# EAGLE library part LED-MATRIX-8X8-RGY-COMK (library mylib)
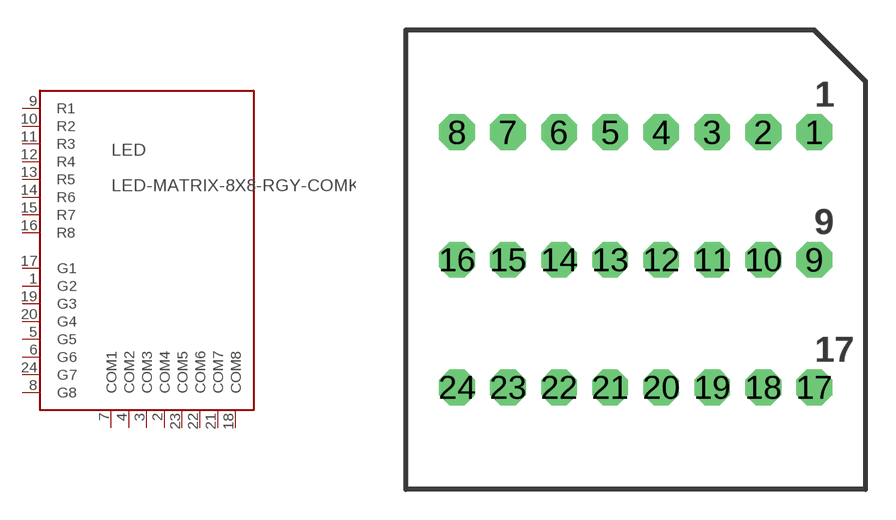
[diagram p5: symbol with the pads of LED-MATRIX-8X8-RG; footprint LED-MATRIX-8X8-RG]

Designator prefix LED

## LED-MATRIX-8X8-RGY-COMK  [LED-MATRIX-8X8-RG]
1  G2
2  COM4
3  COM3
4  COM2
5  G5
6  G6
7  COM1
8  G8
9  R1
10  R2
11  R3
12  R4
13  R5
14  R6
15  R7
16  R8
17  G1
18  COM8
19  G3
20  G4
21  COM7
22  COM6
23  COM5
24  G7

## Footprint LED-MATRIX-8X8-RG (pad centres in mm)
drill 0.7 pad 1.778 octagon: 1 8.89,6.35; 2 6.35,6.35; 3 3.81,6.35; 4 1.27,6.35; 5 -1.27,6.35; 6 -3.81,6.35; 7 -6.35,6.35; 8 -8.89,6.35; 9 8.89,0; 10 6.35,0; 11 3.81,0; 12 1.27,0; 13 -1.27,0; 14 -3.81,0; 15 -6.35,0; 16 -8.89,0; 17 8.89,-6.35; 18 6.35,-6.35; 19 3.81,-6.35; 20 1.27,-6.35; 21 -1.27,-6.35; 22 -3.81,-6.35; 23 -6.35,-6.35; 24 -8.89,-6.35